# Altium footprint library DIOD-SMB.PcbLib: 1 footprints
Each footprint in its own frame and in the unit in brackets; x right, y up, seen from the top. Pads: shape width x height; smd on the part's side, far side on the other; paste and mask are expansions set on the pad; w line width, h text height; cw(c..) or ccw(c..) is an arc to the next point about the centre after c.
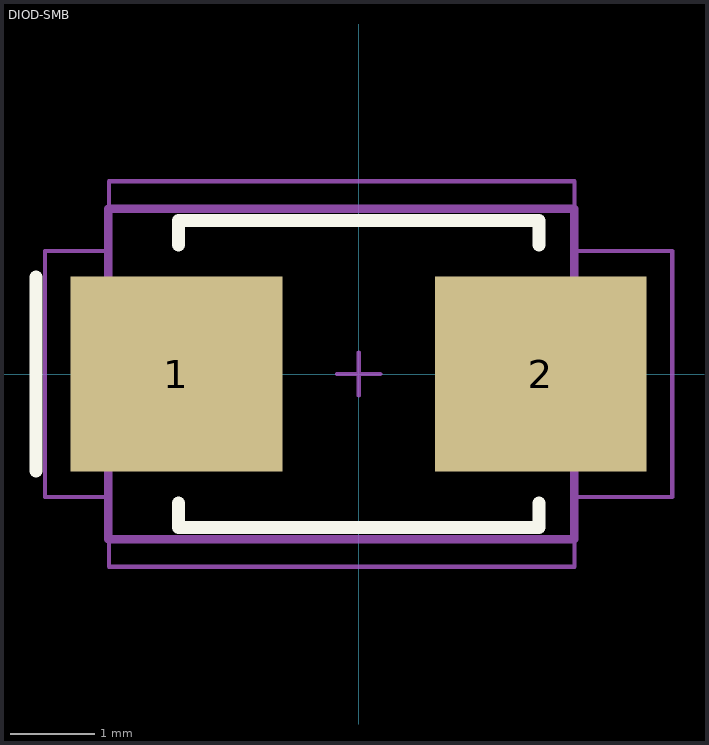
[diagram p0: the footprint, top view; thin cyan lines are the x and y axes]

## DIOD-SMB [mm]
height 2
pads (2):
  rect 2.5x2.3 smd: 1(-2.15,0) 2(2.15,0)
Top Overlay:
  lines w0.152: -3.81,-1.143 -3.81,1.143 ; -2.127,-1.524 -2.127,-1.81 2.127,-1.81 2.127,-1.524 ; -2.127,1.524 -2.127,1.81 2.127,1.81 2.127,1.524
Mechanical 13:
  lines w0.1: -2.953,-1.95 -2.953,1.95 2.547,1.95 2.547,-1.95 -2.953,-1.95
Mechanical 15:
  lines w0.05: -0.254,0 0.254,0 ; 0,-0.254 0,0.254 ; -3.7,-1.45 -3.7,1.45 -2.946,1.45 -2.946,2.275 2.547,2.275 2.547,1.45 3.7,1.45 3.7,-1.45 2.547,-1.45 2.547,-2.275 -2.946,-2.275 -2.946,-1.45 -3.7,-1.45
3D body: height 2.45, standoff 0.03, extent -2.953,-1.95 2.547,1.95